# EAGLE library part PCA9306 (library ELE3000)
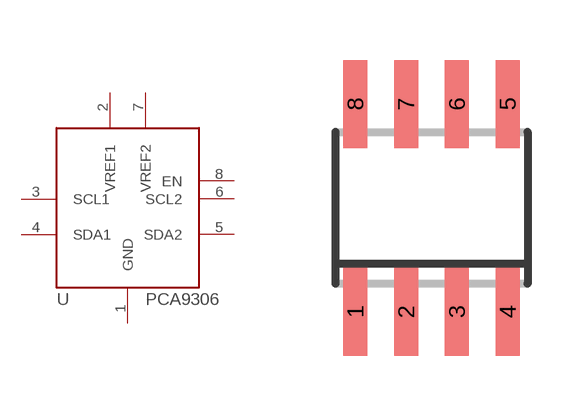
[diagram p6: symbol with the pads of SO08; footprint SO08]

Designator prefix -

## PCA9306D  [SO08]
1  GND  sup
2  VREF1  sup
3  SCL1
4  SDA1
5  SDA2
6  SCL2
7  VREF2  sup
8  EN  in

## Footprint SO08 (pad centres in mm)
Small Outline Package 8 NS Package M08A
smd 0.6 x 2.2: 1 -1.905,-2.6; 2 -0.635,-2.6; 3 0.635,-2.6; 4 1.905,-2.6; 5 1.905,2.6; 6 0.635,2.6; 7 -0.635,2.6; 8 -1.905,2.6